# EAGLE library part FLAT-FLEX-CONNECTOR-VERT-26POS (library FlashPCB_Connectors)
FLAT-FLEX-CONNECTOR-VERT-26POS - Flat Flex Connector 26 position Vertical Technical Specifications: Number of Positions: 26 Contact: One Side Mount: Vertical
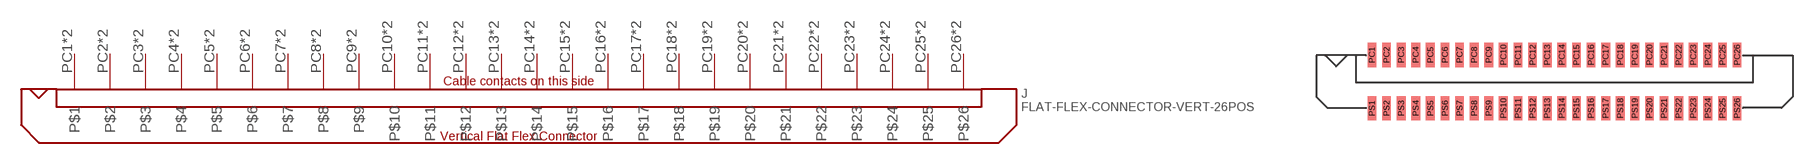
[diagram p133: symbol with the pads of FLAT-FLEX-CONNECTOR-MOLEX-52610-VERT-26POS; footprint FLAT-FLEX-CONNECTOR-MOLEX-52610-VERT-26POS]

Designator prefix J

## FLAT-FLEX-CONNECTOR-VERT-26POS1MM-PITCH  [FLAT-FLEX-CONNECTOR-MOLEX-52610-VERT-26POS]
PC1  P$1
PC2  P$2
PC3  P$3
PC4  P$4
PC5  P$5
PC6  P$6
PC7  P$7
PC8  P$8
PC9  P$9
PC10  P$10
PC11  P$11
PC12  P$12
PC13  P$13
PC14  P$14
PC15  P$15
PC16  P$16
PC17  P$17
PC18  P$18
PC19  P$19
PC20  P$20
PC21  P$21
PC22  P$22
PC23  P$23
PC24  P$24
PC25  P$25
PC26  P$26
PS1  P$1
PS2  P$2
PS3  P$3
PS4  P$4
PS5  P$5
PS6  P$6
PS7  P$7
PS8  P$8
PS9  P$9
PS10  P$10
PS11  P$11
PS12  P$12
PS13  P$13
PS14  P$14
PS15  P$15
PS16  P$16
PS17  P$17
PS18  P$18
PS19  P$19
PS20  P$20
PS21  P$21
PS22  P$22
PS23  P$23
PS24  P$24
PS25  P$25
PS26  P$26

## Footprint FLAT-FLEX-CONNECTOR-MOLEX-52610-VERT-26POS (pad centres in mm)
smd 0.6 x 1.65: PC1 -12.5,1.825; PC2 -11.5,1.825; PC3 -10.5,1.825; PC4 -9.5,1.825; PC5 -8.5,1.825; PC6 -7.5,1.825; PC7 -6.5,1.825; PC8 -5.5,1.825; PC9 -4.5,1.825; PC10 -3.5,1.825; PC11 -2.5,1.825; PC12 -1.5,1.825; PC13 -0.5,1.825; PC14 0.5,1.825; PC15 1.5,1.825; PC16 2.5,1.825; PC17 3.5,1.825; PC18 4.5,1.825; PC19 5.5,1.825; PC20 6.5,1.825; PC21 7.5,1.825; PC22 8.5,1.825; PC23 9.5,1.825; PC24 10.5,1.825; PC25 11.5,1.825; PC26 12.5,1.825; PS1 -12.5,-1.825; PS2 -11.5,-1.825; PS3 -10.5,-1.825; PS4 -9.5,-1.825; PS5 -8.5,-1.825; PS6 -7.5,-1.825; PS7 -6.5,-1.825; PS8 -5.5,-1.825; PS9 -4.5,-1.825; PS10 -3.5,-1.825; PS11 -2.5,-1.825; PS12 -1.5,-1.825; PS13 -0.5,-1.825; PS14 0.5,-1.825; PS15 1.5,-1.825; PS16 2.5,-1.825; PS17 3.5,-1.825; PS18 4.5,-1.825; PS19 5.5,-1.825; PS20 6.5,-1.825; PS21 7.5,-1.825; PS22 8.5,-1.825; PS23 9.5,-1.825; PS24 10.5,-1.825; PS25 11.5,-1.825; PS26 12.5,-1.825